# EAGLE library part AD7794 (library Deegou_IC)
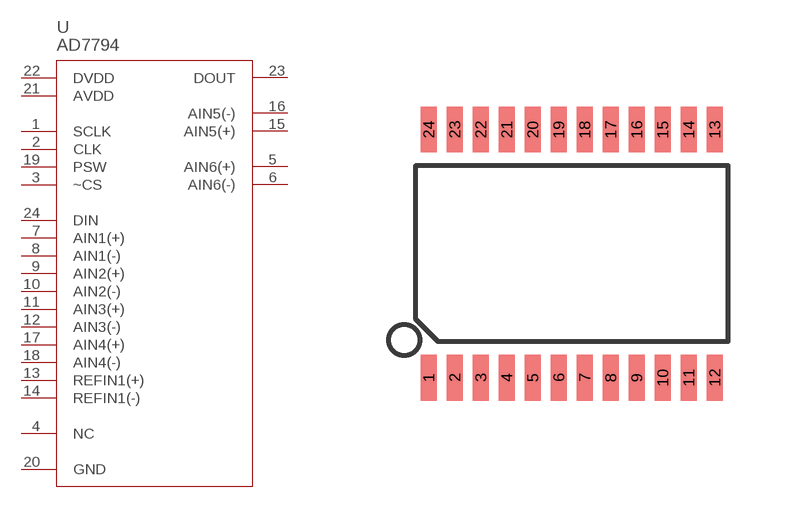
[diagram p109: symbol with the pads of TSSOP24; footprint TSSOP24]

Designator prefix U

## AD7794  [TSSOP24]
1  SCLK
2  CLK
3  ~CS
4  NC
5  AIN6(+)
6  AIN6(-)
7  AIN1(+)
8  AIN1(-)
9  AIN2(+)
10  AIN2(-)
11  AIN3(+)
12  AIN3(-)
13  REFIN1(+)
14  REFIN1(-)
15  AIN5(+)
16  AIN5(-)
17  AIN4(+)
18  AIN4(-)
19  PSW
20  GND
21  AVDD
22  DVDD
23  DOUT
24  DIN

## Footprint TSSOP24 (pad centres in mm)
smd 0.4 x 1.15: 1 -3.575,-3.1; 2 -2.925,-3.1; 3 -2.275,-3.1; 4 -1.625,-3.1; 5 -0.975,-3.1; 6 -0.325,-3.1; 7 0.325,-3.1; 8 0.975,-3.1; 9 1.625,-3.1; 10 2.275,-3.1; 11 2.925,-3.1; 12 3.575,-3.1; 13 3.575,3.1; 14 2.925,3.1; 15 2.275,3.1; 16 1.625,3.1; 17 0.975,3.1; 18 0.325,3.1; 19 -0.325,3.1; 20 -0.975,3.1; 21 -1.625,3.1; 22 -2.275,3.1; 23 -2.925,3.1; 24 -3.575,3.1